# Altium schematic symbol library sucaiku.SCHLIB: 33 symbols
Pins are listed as number, name and electrical type; pins without a type are passive.

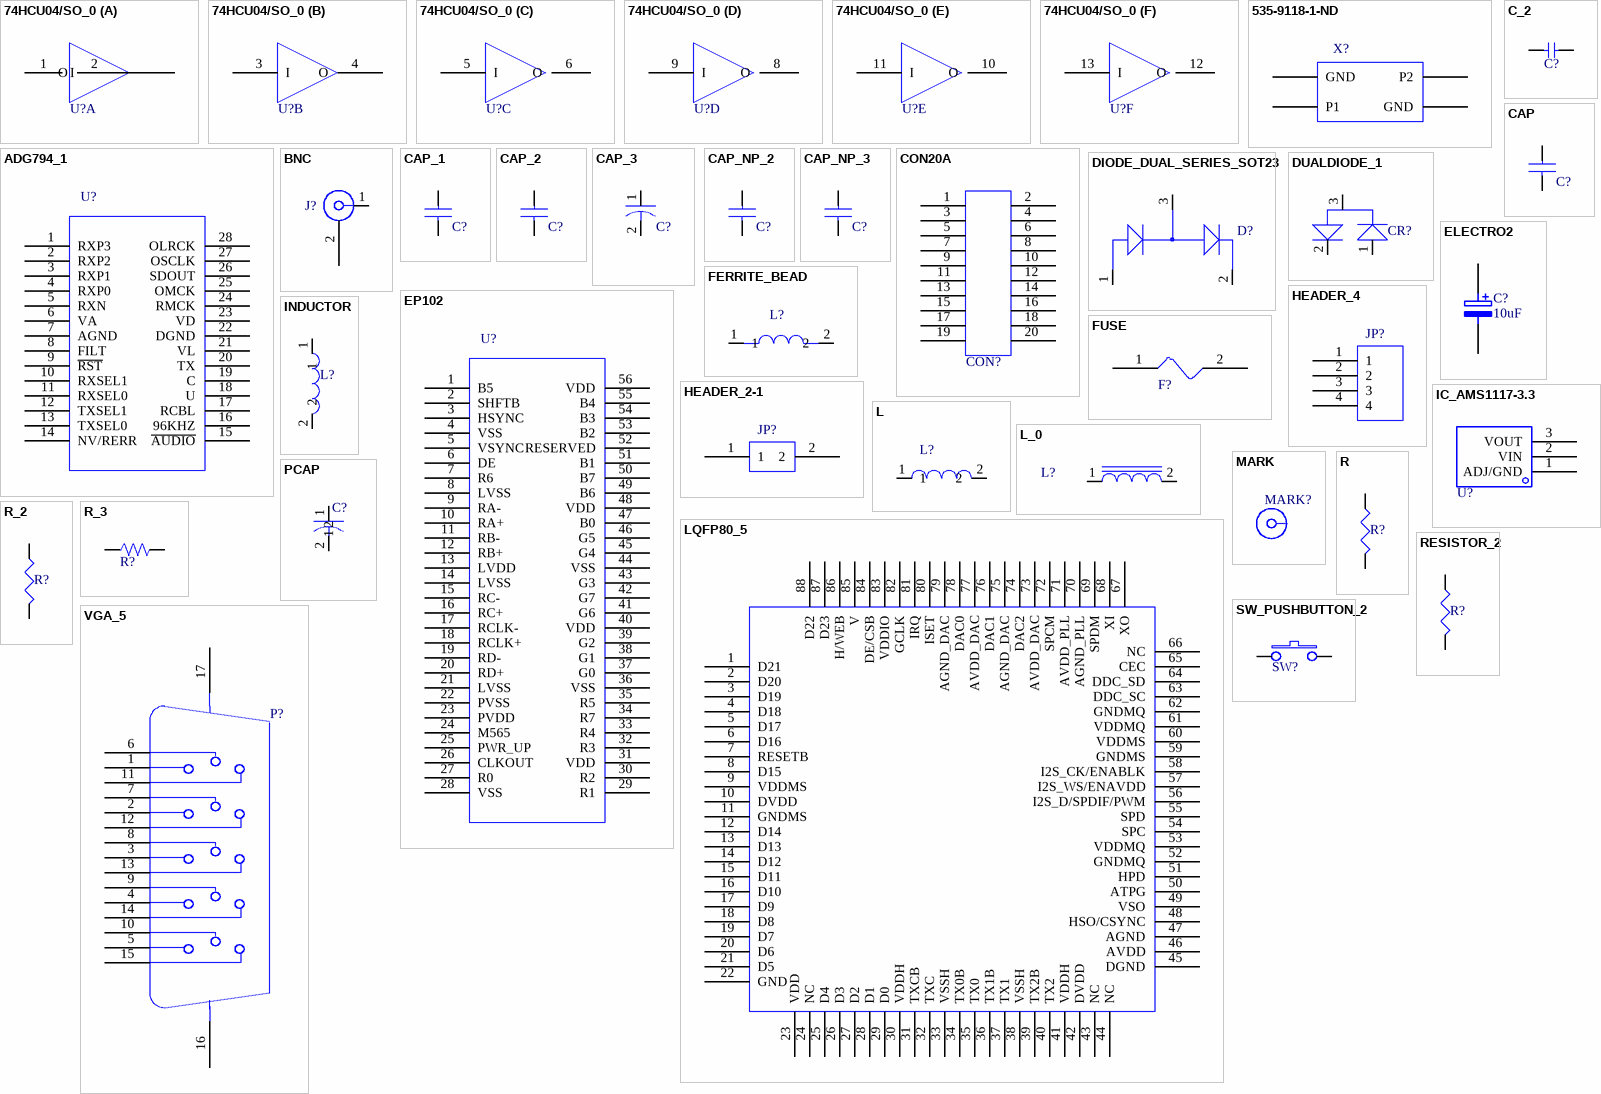
[diagram p0: symbols 74HCU04/SO_0 to VGA_5]

## 74HCU04/SO_0
designator U?  (value not drawn)
PCB DECAL: SOIC-14; SOURCE_PATH: D:\WORK\CT357\SCHEMATIC\TEST DEPARTMENT\CT357_ QFN_ HDMI_BOARD .DSN; VALUE: 74HCU04/SO_0
footprint SOIC-14
part A pins: 1 I, 2 O
part B pins: 3 I, 4 O
part C pins: 5 I, 6 O
part D pins: 8 O, 9 I
part E pins: 10 O, 11 I
part F pins: 12 O, 13 I
2 alternate drawings of the same symbol

## 535-9118-1-ND
designator X?  (value not drawn)
SOURCE_PATH: C:\CHRONTEL\PCB\STEPHEN.OLB; VALUE: 535-9118-1-ND (13 MHz); PCB DECAL: 535-9118-1-ND
footprint 535-9118-1-ND
pins: 1 P1, 2 GND, 3 P2, 4 GND
2 alternate drawings of the same symbol

## ADG794_1
designator U?  (value not drawn)
PCB DECAL: TSSOP28; SOURCE_PATH: C:\DOCUMENTS AND SETTINGS\YTIAN\DESKTOP\CH7026_APP\CT357_QFN_HDMI_APPLICATION_BOARD.DSN; VALUE: CS8416
footprint TSSOP28
pins: 1 RXP3, 2 RXP2, 3 RXP1, 4 RXP0, 5 RXN, 6 VA, 7 AGND, 8 FILT, 9 ~{RST}, 10 RXSEL1, 11 RXSEL0, 12 TXSEL1, 13 TXSEL0, 14 NV/RERR, 15 ~{AUDIO}, 16 96KHZ, 17 RCBL, 18 U, 19 C, 20 TX, 21 VL, 22 DGND, 23 VD, 24 RMCK, 25 OMCK, 26 SDOUT, 27 OSCLK, 28 OLRCK
2 alternate drawings of the same symbol

## BNC
designator J?  (value not drawn)
PCB DECAL: RCA-101; SOURCE_PATH: C:\PROGRAM FILES\印院出品\CAPTURE 16.2\LIBRARY\CONNECTOR.OLB; VALUE: BNC
footprint DC-005B
pins: 1 CENTER, 2 SHIELD
2 alternate drawings of the same symbol

## C_2
designator C?  (value not drawn)
PCB DECAL: 0603; SOURCE_PATH: C:\ORCAD\ORCAD_10.0\TOOLS\CAPTURE\LIBRARY\PSPICE\ANALOG.OLB; VALUE: 0.1u; DIST: FLAT; PSPICETEMPLATE: C^@REFDES %1 %2 ?TOLERANCE|C^@REFDES| @VALUE ?IC/IC=@IC/ ?TOLERANCE|\n.model C^@REFDES CAP C=1 DEV=@TOLERANCE%|; VOLTAGE: CMAX; CURRENT: CIMAX; KNEE: CBMAX; SLOPE: CSMAX; MAX_TEMP: CTMAX
footprint C0603
pins: 1, 2
2 alternate drawings of the same symbol

## CAP
designator C?, comment 0.1uF  (value not drawn)
PART_SHAPE: 0805; PCB DECAL: 0603; SOURCE_PATH: C:\ORCADWIN\CAPTURE\LIBRARY\CHRONTEL.OLB; VALUE: 33pF
footprint 1206-C
pins: 1, 2
2 alternate drawings of the same symbol

## CAP_1
designator C?, comment 10uF  (value not drawn)
PART_SHAPE: 0805; PCB DECAL: 0603; SOURCE_PATH: C:\ORCADWIN\CAPTURE\LIBRARY\CHRONTEL.OLB; VALUE: 33pF
footprint 0805-C
pins: 1, 2
2 alternate drawings of the same symbol

## CAP_2
designator C?, comment CAP  (value not drawn)
PART_SHAPE: 0805; PCB DECAL: 0603; SOURCE_PATH: C:\ORCADWIN\CAPTURE\LIBRARY\CHRONTEL.OLB; VALUE: 33pF
footprint C0603
pins: 1, 2
2 alternate drawings of the same symbol

## CAP_3
designator C?  (value not drawn)
PCB DECAL: 3528; SOURCE_PATH: M:\BIN\ORCAD95\CAPTURE\LIBRARY\DEVICE.OLB; VALUE: 10uf
footprint 3528-C
pins: 1, 2
2 alternate drawings of the same symbol

## CAP_NP_2
designator C?  (value not drawn)
PCB DECAL: 0603; SOURCE_PATH: \\ZIPPY\CADENCE\PSD_14.2\TOOLS\CAPTURE\LIBRARY\DISCRETE.OLB; VALUE: 1uF
footprint C0603
pins: 1, 2
2 alternate drawings of the same symbol

## CAP_NP_3
designator C?  (value not drawn)
PCB DECAL: 0603; SOURCE_PATH: M:\BIN\ORCAD95\CAPTURE\LIBRARY\DEVICE.OLB; VALUE: 0.1uf
footprint 1206-C
pins: 1, 2
2 alternate drawings of the same symbol

## CON20A
designator CON?  (value not drawn)
PCB DECAL: JTAG-20X2.54; SOURCE_PATH: C:\ORCAD\ORCAD_10.0\TOOLS\CAPTURE\LIBRARY\CONNECTOR.OLB; VALUE: LVDS_CONN
footprint JTAG-20X2.54
pins: 1, 2, 3, 4, 5, 6, 7, 8, 9, 10, 11, 12, 13, 14, 15, 16, 17, 18, 19, 20
2 alternate drawings of the same symbol

## DIODE_DUAL_SERIES_SOT23
designator D?  (value not drawn)
PCB DECAL: SOT-23; SOURCE_PATH: C:\DESIGNS\NV-LIB\ORCAD_LIB_0.05.OLB; VALUE: BAT54SLT1; SEPERATOR: /; INSTANCE: 091-00
footprint SOT-23
pins: 1 GND, 2 VDD, 3 SIGNAL
2 alternate drawings of the same symbol

## DUALDIODE_1
designator CR?  (value not drawn)
PARTNAME: BAT54SLT1; PCB DECAL: SOT-23; SOURCE_PATH: D:\TONGLIU\7306\PCB\REF_CH7306_N_09_02_03_V07.DSN; VALUE: BAT54SLT1
footprint SOT-23
pins: 1, 2, 3
2 alternate drawings of the same symbol

## ELECTRO2
designator C?, comment 10uF
Electrolytic Capacitor
footprint 3528-C
pins: 1, 2

## EP102
designator U?  (value not drawn)
PCB DECAL: TSSOP56; SOURCE_PATH: D:\CHRONTEL\CT365\MB LVDS DAUGHER CARD\LIBRARY LVDS.OLB; VALUE: LVDS2RGB
footprint TSSOP56
pins: 1 B5, 2 SHFTB, 3 HSYNC, 4 VSS, 5 VSYNC, 6 DE, 7 R6, 8 LVSS, 9 RA-, 10 RA+, 11 RB-, 12 RB+, 13 LVDD, 14 LVSS, 15 RC-, 16 RC+, 17 RCLK-, 18 RCLK+, 19 RD-, 20 RD+, 21 LVSS, 22 PVSS, 23 PVDD, 24 M565, 25 PWR_UP, 26 CLKOUT, 27 R0, 28 VSS, 29 R1, 30 R2, 31 VDD, 32 R3, 33 R4, 34 R7, 35 R5, 36 VSS, 37 G0, 38 G1, 39 G2, 40 VDD, 41 G6, 42 G7, 43 G3, 44 VSS, 45 G4, 46 G5, 47 B0, 48 VDD, 49 B6, 50 B7, 51 B1, 52 RESERVED, 53 B2, 54 B3, 55 B4, 56 VDD
2 alternate drawings of the same symbol

## FERRITE_BEAD
designator L?  (value not drawn)
PCB DECAL: 0805; SOURCE_PATH: C:\ORCADWIN\CAPTURE\LIBRARY\CHRONTEL.OLB; VALUE: 0.082uH
footprint 0805-l
pins: 1, 2
2 alternate drawings of the same symbol

## FUSE
designator F?  (value not drawn)
PCB DECAL: MINISMDC050CT; SOURCE_PATH: C:\PROGRAM FILES\ORCAD\CAPTURE\LIBRARY\DISCRETE.OLB; VALUE: 050CT-ND
footprint 1206-F
pins: 1, 2
2 alternate drawings of the same symbol

## HEADER_2-1
designator JP?  (value not drawn)
PCB DECAL: HDR2; SOURCE_PATH: C:\CHRONTEL\PCB\STEPHEN.OLB; VALUE: HEADER 1x2
footprint HDR2
pins: 1, 2
2 alternate drawings of the same symbol

## HEADER_4
designator JP?  (value not drawn)
PCB DECAL: HDR4; SOURCE_PATH: C:\PROGRAM FILES\ORCAD\CAPTURE\LIBRARY\CONNECTOR.OLB; VALUE: PH-4
footprint HDR4
pins: 1, 2, 3, 4
2 alternate drawings of the same symbol

## IC_AMS1117-3.3
designator U?, comment 3.3_TO_1_0.8_VOLTAGE_REGULATOR  (value not drawn)
PCB DECAL: SOT-89; SOURCE_PATH: D:\COMPANY\MYPROJECT\CT320\EVABOARD\REVB\CT320EVB0.1.DSN; VALUE: AMS1117-3.3
pins: 1 ADJ/GND, 2 VIN, 3 VOUT
2 alternate drawings of the same symbol

## INDUCTOR
designator L?  (value not drawn)
PCB DECAL: 0805; SOURCE_PATH: C:\ORCADWIN\CAPTURE\LIBRARY\PCBDEV.OLB; VALUE: FB
footprint 0805-l
pins: 1, 2
2 alternate drawings of the same symbol

## L
designator L?  (value not drawn)
PCB DECAL: 0805; SOURCE_PATH: C:\ORCAD\ORCAD_10.0\TOOLS\CAPTURE\LIBRARY\PSPICE\ANALOG.OLB; VALUE: 0.082uH; DIST: FLAT; PSPICETEMPLATE: L^@REFDES %1 %2 ?TOLERANCE|L^@REFDES| @VALUE ?IC/IC=@IC/ ?TOLERANCE|\n.model l^@REFDES IND L=1 DEV=@TOLERANCE%|; CURRENT: LMAX; DIELECTRIC: DSMAX
footprint 0805-l
pins: 1, 2
2 alternate drawings of the same symbol

## L_0
designator L?  (value not drawn)
PCB DECAL: 0805; SOURCE_PATH: D:\CT318\EVALUATION BOARD\EVA BOARD.DSN; VALUE: 150-220R 100MHz; DIST: FLAT; PSPICETEMPLATE: L^@REFDES %1 %2 ?TOLERANCE|L^@REFDES| @VALUE ?IC/IC=@IC/ ?TOLERANCE|\n.model l^@REFDES IND L=1 DEV=@TOLERANCE%|; CURRENT: LMAX; DIELECTRIC: DSMAX
footprint 0805-l
pins: 1, 2
2 alternate drawings of the same symbol

## LQFP80_5
designator U?  (value not drawn)
PCB DECAL: QFN88; SOURCE_PATH: C:\DOCUME~1\CAD01\桌面\TEST\0622\HDMI_B~1.DSN; VALUE: CPU
footprint QFN88
pins: 1 D21, 2 D20, 3 D19, 4 D18, 5 D17, 6 D16, 7 RESETB, 8 D15, 9 VDDMS, 10 DVDD, 11 GNDMS, 12 D14, 13 D13, 14 D12, 15 D11, 16 D10, 17 D9, 18 D8, 19 D7, 20 D6, 21 D5, 22 GND, 23 VDD, 24 NC, 25 D4, 26 D3, 27 D2, 28 D1, 29 D0, 30 VDDH, 31 TXCB, 32 TXC, 33 VSSH, 34 TX0B, 35 TX0, 36 TX1B, 37 TX1, 38 VSSH, 39 TX2B, 40 TX2, 41 VDDH, 42 DVDD, 43 NC, 44 NC, 45 DGND, 46 AVDD, 47 AGND, 48 HSO/CSYNC, 49 VSO, 50 ATPG, 51 HPD, 52 GNDMQ, 53 VDDMQ, 54 SPC, 55 SPD, 56 I2S_D/SPDIF/PWM, 57 I2S_WS/ENAVDD, 58 I2S_CK/ENABLK, 59 GNDMS, 60 VDDMS, 61 VDDMQ, 62 GNDMQ, 63 DDC_SC, 64 DDC_SD, 65 CEC, 66 NC, 67 XO, 68 XI, 69 SPDM, 70 AGND_PLL, 71 AVDD_PLL, 72 SPCM, 73 AVDD_DAC, 74 DAC2, 75 AGND_DAC, 76 DAC1, 77 AVDD_DAC, 78 DAC0, 79 AGND_DAC, 80 ISET, 81 IRQ, 82 GCLK, 83 VDDIO, 84 DE/CSB, 85 V, 86 H/WEB, 87 D23, 88 D22
2 alternate drawings of the same symbol

## MARK
designator MARK?, comment HO  (value not drawn)
PCB DECAL: RCA-101; SOURCE_PATH: C:\PROGRAM FILES\印院出品\CAPTURE 16.2\LIBRARY\CONNECTOR.OLB; VALUE: BNC
footprint MARKS
2 alternate drawings of the same symbol

## PCAP
designator C?  (value not drawn)
CAP - 10uF 16V TE Tant; MFR_CODE: KME; MANUFACTURER_PART_NUM: T491B106M016AS; MANUFACTURER: Kemet; PART_CLASS: CAPACITORS; NUM_PINS: 2; ITEM_NUM: P03-10463; ALTERA_PRT_#_: P03-10463-00; PRICE: 0.1; SUPPLIER_PART_NUM: 399-1594-2-ND; #_PINS: 2; PART_TYPE: CAP; MANUFATURER: Kemet; MANUFATURER_PART_NUMBER: T491B106M016AS; SUPPLIER: Digikey; SUPPLIER_PRT_#: 399-1594-2-ND
footprint 3528-C
pins: 1, 2
2 alternate drawings of the same symbol

## R
designator R?  (value not drawn)
PCB DECAL: 0603; SOURCE_PATH: M:\BIN\ORCAD95\CAPTURE\LIBRARY\DEVICE.OLB; VALUE: 75
footprint R0603
pins: 1, 2
2 alternate drawings of the same symbol

## R_2
designator R?  (value not drawn)
PCB DECAL: 0603; SOURCE_PATH: M:\BIN\ORCAD95\CAPTURE\LIBRARY\DEVICE.OLB; VALUE: 100
footprint R0603
pins: 1, 2
2 alternate drawings of the same symbol

## R_3
designator R?  (value not drawn)
PCB DECAL: 0603; SOURCE_PATH: C:\ORCAD\ORCAD_10.0\TOOLS\CAPTURE\LIBRARY\PSPICE\ANALOG.OLB; VALUE: 47k; POWER: RMAX; MAX_TEMP: RTMAX; SLOPE: RSMAX; VOLTAGE: RVMAX; PSPICETEMPLATE: R^@REFDES %1 %2 ?TOLERANCE|R^@REFDES| @VALUE  ?TOLERANCE|\n.model R^@REFDES RES R=1 DEV=@TOLERANCE%|; DIST: FLAT
footprint R0603
pins: 1, 2
2 alternate drawings of the same symbol

## RESISTOR_2
designator R?  (value not drawn)
PCB DECAL: 0603; SOURCE_PATH: C:\ORCADWIN\CAPTURE\LIBRARY\PCBDEV.OLB; VALUE: 22
footprint R0603
pins: 1, 2
2 alternate drawings of the same symbol

## SW_PUSHBUTTON_2
designator SW?  (value not drawn)
PCB DECAL: SW-280; SOURCE_PATH: C:\PROGRAM FILES\ORCAD\CAPTURE\LIBRARY\DISCRETE.OLB; VALUE: P8058SS-ND
footprint SW-280
pins: 1, 2
2 alternate drawings of the same symbol

## VGA_5
designator P?  (value not drawn)
PCB DECAL: DSUB-15; SOURCE_PATH: D:\CT318\EVALUATION BOARD\EVA BOARD.DSN; VALUE: VGA
footprint DSUB-15
pins: 1, 2, 3, 4, 5, 6, 7, 8, 9, 10, 11, 12, 13, 14, 15, 16, 17
2 alternate drawings of the same symbol